# Altium footprint library 0P43622UG_PCB.PcbLib: 1 footprints
Each footprint in its own frame and in the unit in brackets; x right, y up, seen from the top. Pads: shape width x height; smd on the part's side, far side on the other; paste and mask are expansions set on the pad; w line width, h text height; cw(c..) or ccw(c..) is an arc to the next point about the centre after c.
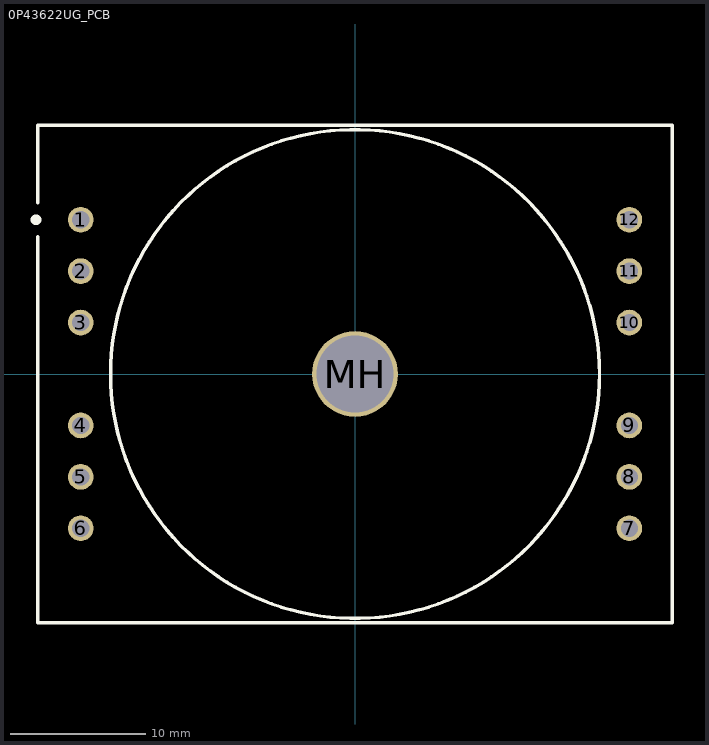
[diagram p0: the footprint, top view; thin cyan lines are the x and y axes]

## 0P43622UG_PCB [mil]
pads (13):
  round 75 hole 50: 1(-800,450) 2(-800,300) 3(-800,150) 4(-800,-150) 5(-800,-300) 6(-800,-450) 7(800,-450) 8(800,-300) 9(800,-150) 10(800,150) 11(800,300) 12(800,450)
  round 250 hole 225: MH(0,0)
Top Overlay:
  circle w10: c0,0 r713
  lines w10: -925,400 -925,-725 925,-725 925,725 -925,725 -925,500
  lines w30: -931,450 -930,450
3D body: height 869.73, standoff -195.28, extent -915,-695 915,693.59